# Altium footprint library QFN50P400X400X80_HS-25N.PcbLib: 1 footprints
Each footprint in its own frame and in the unit in brackets; x right, y up, seen from the top. Pads: shape width x height; smd on the part's side, far side on the other; paste and mask are expansions set on the pad; w line width, h text height; cw(c..) or ccw(c..) is an arc to the next point about the centre after c.
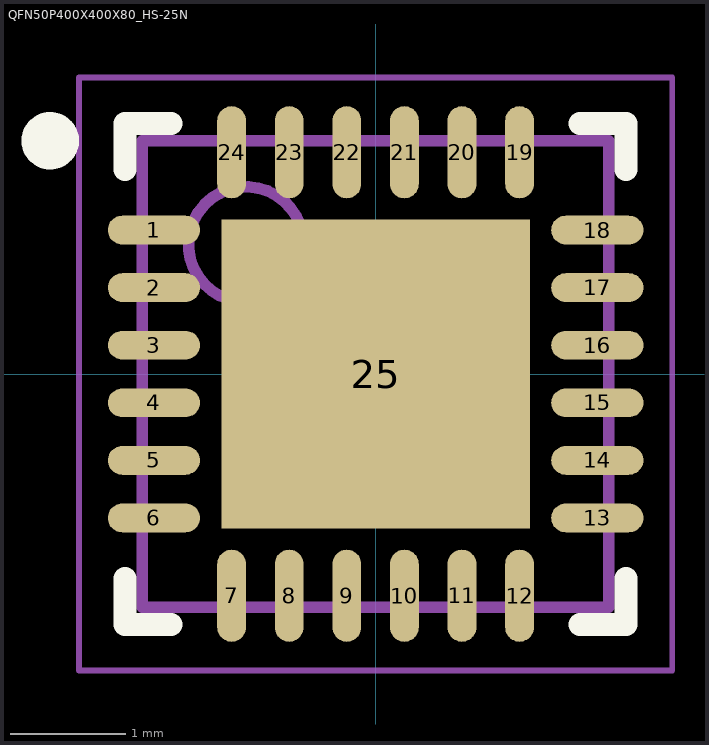
[diagram p0: the footprint, top view; thin cyan lines are the x and y axes]

## QFN50P400X400X80_HS-25N [mm] "QFN, 24-Leads, Body 4,00x4,00mm, Pitch 0,50mm, Thermal Pad 2,68x2,68mm, IPC Medium Density"
height 0.8
pads (25):
  oval 0.8x0.25 smd: 1(-1.925,1.25) 2(-1.925,0.75) 3(-1.925,0.25) 4(-1.925,-0.25) 5(-1.925,-0.75) 6(-1.925,-1.25) 13(1.925,-1.25) 14(1.925,-0.75) 15(1.925,-0.25) 16(1.925,0.25) 17(1.925,0.75) 18(1.925,1.25)
  oval 0.25x0.8 smd: 7(-1.25,-1.925) 8(-0.75,-1.925) 9(-0.25,-1.925) 10(0.25,-1.925) 11(0.75,-1.925) 12(1.25,-1.925) 19(1.25,1.925) 20(0.75,1.925) 21(0.25,1.925) 22(-0.25,1.925) 23(-0.75,1.925) 24(-1.25,1.925)
  rect 2.68x2.68 smd: 25(0,0)
Top Overlay:
  circle w0.25: c-2.825,2.025 r0.125
  lines w0.2: -2.175,-1.775 -2.175,-2.175 -1.775,-2.175 ; -2.175,1.775 -2.175,2.175 -1.775,2.175 ; 1.775,-2.175 2.175,-2.175 2.175,-1.775 ; 1.775,2.175 2.175,2.175 2.175,1.775
Top Assembly:
  circle w0.1: c-1.125,1.125 r0.5
  lines w0.1: -2.025,-2.025 -2.025,2.025 2.025,2.025 2.025,-2.025 -2.025,-2.025
Top Courtyard:
  lines w0.05: -2.575,-2.575 -2.575,2.575 2.575,2.575 2.575,-2.575 -2.575,-2.575
  lines w0.1: -0.5,0 0.5,0 ; 0,-0.5 0,0.5
3D body "QFN50P400X400X80_HS-25N.step": height 0.8, standoff 0, extent -2.026,-2.026 2.026,2.026